# EAGLE library part 14-SEGMENT-2 (library pixel)
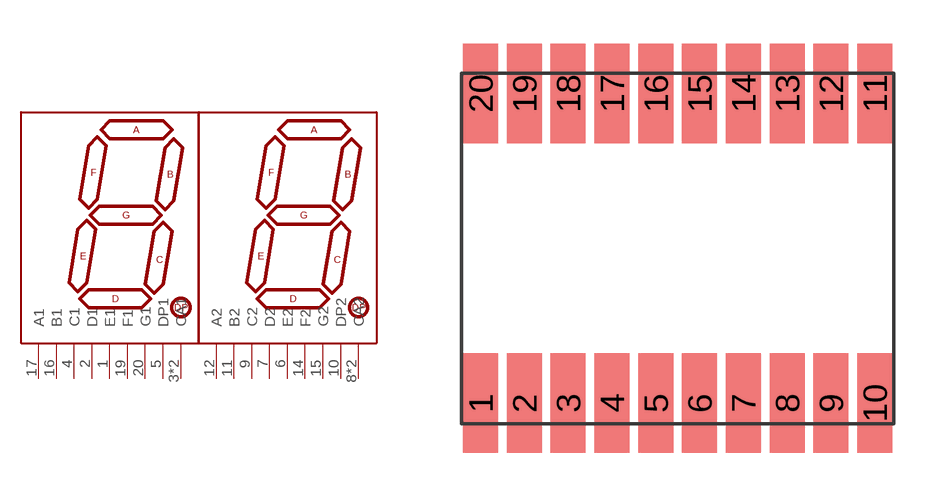
[diagram p3: symbol with the pads of 14-SEGMENT-2; footprint 14-SEGMENT-2]

Designator prefix -

## 14-SEGMENT-2  [14-SEGMENT-2]
1  E1
2  D1
3  CA1
4  C1
5  DP1
6  E2
7  D2
8  CA2
9  C2
10  DP2
11  B2
12  A2
13  CA2
14  F2
15  G2
16  B1
17  A1
18  CA1
19  F1
20  G1

## Footprint 14-SEGMENT-2 (pad centres in mm)
smd 1.2 x 3.4: 1 -6.75,-5.3; 2 -5.25,-5.3; 3 -3.75,-5.3; 4 -2.25,-5.3; 5 -0.75,-5.3; 6 0.75,-5.3; 7 2.25,-5.3; 8 3.75,-5.3; 9 5.25,-5.3; 10 6.75,-5.3; 11 6.75,5.3; 12 5.25,5.3; 13 3.75,5.3; 14 2.25,5.3; 15 0.75,5.3; 16 -0.75,5.3; 17 -2.25,5.3; 18 -3.75,5.3; 19 -5.25,5.3; 20 -6.75,5.3